# Altium schematic symbol library Sensors Temperature.SchLib: 1 symbol
Pins are listed as number, name and electrical type; pins without a type are passive.

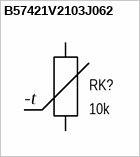
[diagram p0: symbol B57421V2103J062]

## B57421V2103J062
designator RK?, comment 10k
Termistor NTC 0805(2012) 10k; Manufacturer: TDK; Part name: B57421V2103J062; Group: Sensors; Tolerance: ±5%; Power: 0.210W; Component: Sensors Temperature; Type: NTC; Package: 0805 (2012); Resistance: 10k; Dimension: 2.00mm x 1.25mm; Height: 1.20mm; Operating temperature: -55°C +125°C; Mounting type: Surface mount
footprint NTC2012M (Chip NTC Body 2.0x1.2mm)
pins: 1, 2
text: -t